# Altium footprint library Button_4x3x2.PcbLib: 1 footprints
Each footprint in its own frame and in the unit in brackets; x right, y up, seen from the top. Pads: shape width x height; smd on the part's side, far side on the other; paste and mask are expansions set on the pad; w line width, h text height; cw(c..) or ccw(c..) is an arc to the next point about the centre after c.
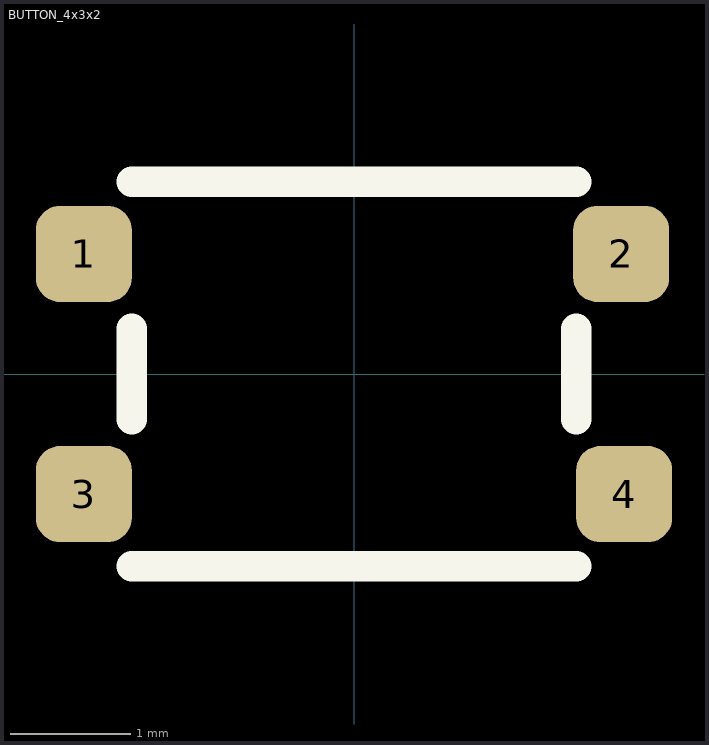
[diagram p0: the footprint, top view; thin cyan lines are the x and y axes]

## BUTTON_4x3x2 [mm]
height 2
pads (4):
  rrect50% 0.8x0.8 smd: 1(-2.25,1) 2(2.225,1) 3(-2.25,-1) 4(2.25,-1)
Top Overlay:
  lines w0.254: -1.85,-1.6 1.85,-1.6 ; -1.85,-0.375 -1.85,0.375 ; -1.85,1.6 1.85,1.6 ; 1.85,-0.375 1.85,0.375
3D body: height 1.3, standoff 0, extent -1.85,-1.6 1.85,1.6
3D body: height 2, standoff 1.3, extent -0.843,-0.848 0.85,0.848